# Altium integrated library FSM8JH.IntLib: 1 symbol
Pins are listed as number, name and electrical type; pins without a type are passive.

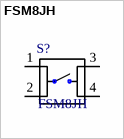
[diagram p0: symbol FSM8JH]

## FSM8JH
designator S?
Switch, Pushbutton, Tactile, SPST, Thru Hole, Vertical, 6MM, Black; MF: TE Connectivity / Alcoswitch; Availability: Good; Price: 0.07 USD; Package: None; MP: FSM8JH; SnapEDA_Link: https://www.snapeda.com/parts/FSM8JH/TE%2520Connectivity%2520/%2520Alcoswitch/view-part/?ref=snap; Value: *
footprint SW_FSM8JH
pins: 1, 2, 3, 4